# Altium footprint library MOLEX_1054500101.PcbLib: 1 footprints
Each footprint in its own frame and in the unit in brackets; x right, y up, seen from the top. Pads: shape width x height; smd on the part's side, far side on the other; paste and mask are expansions set on the pad; w line width, h text height; cw(c..) or ccw(c..) is an arc to the next point about the centre after c.
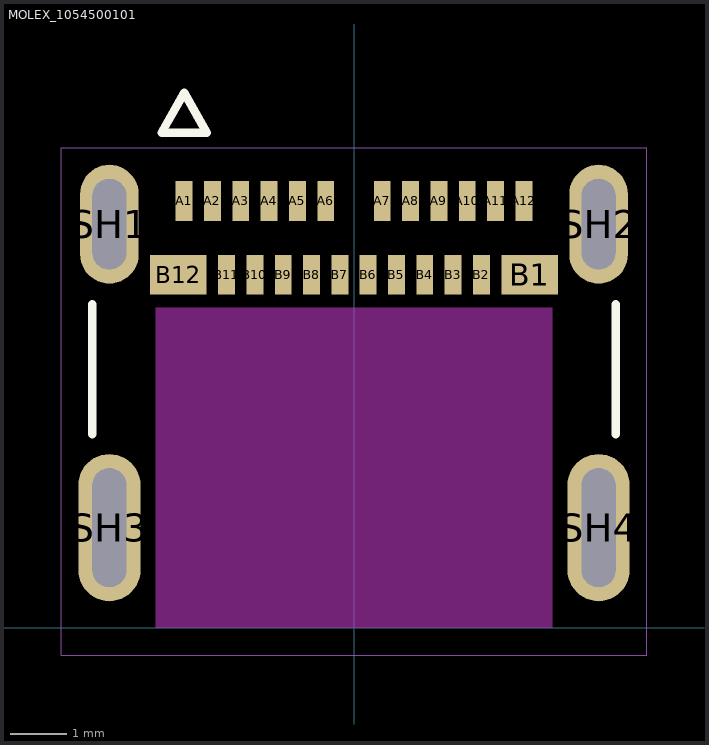
[diagram p0: the footprint, top view; thin cyan lines are the x and y axes]

## MOLEX_1054500101 [mm]
height 3.24
pads (28):
  rect 0.298x0.7 smd mask+0.064: A1(-3,7.54) A2(-2.5,7.54) A3(-2,7.54) A4(-1.5,7.54) A5(-1,7.54) A6(-0.5,7.54) A7(0.5,7.54) A8(1,7.54) A9(1.5,7.54) A10(2,7.54) A11(2.5,7.54) A12(3,7.54) B2(2.25,6.24) B3(1.75,6.24) B4(1.25,6.24) B5(0.75,6.24) B6(0.25,6.24) B7(-0.25,6.24) B8(-0.75,6.24) B9(-1.25,6.24) B10(-1.75,6.24) B11(-2.25,6.24)
  rect 0.998x0.7 smd mask+0.064: B1(3.1,6.24) B12(-3.1,6.24)
  oval 1.036x2.1 hole 0.6 slot 1.6 at 90 deg mask+0.064: SH1(-4.32,7.13) SH2(4.32,7.13)
  oval 1.1x2.6 hole 0.6 slot 2.1 at 90 deg mask+0.064: SH3(-4.32,1.77) SH4(4.32,1.77)
Top Overlay:
  lines w0.15: -4.62,3.42 -4.62,5.72 ; 4.62,3.42 4.62,5.72 ; -3.4,8.748 -3,9.448 -2.6,8.748 -3.4,8.748
Keep-Out Layer:
  region: 3.5,0 -3.5,0 -3.5,5.65 3.5,5.65
Mechanical 13:
  lines w0.13: -3.4,8.748 -3,9.448 -2.6,8.748 -3.4,8.748
Mechanical 15:
  lines w0.01: -5.17,-0.48 -5.17,8.48 5.17,8.48 5.17,-0.48 -5.17,-0.48
3D body "1054500101--3DModel-STEP-1.STEP": height 3.2, standoff -0.9, extent -4.495,-0.14 4.445,7.76